# EAGLE library part SIM5320E (library SIM5320E)
create by mikroavr.co sim5320, 2G/3G modul
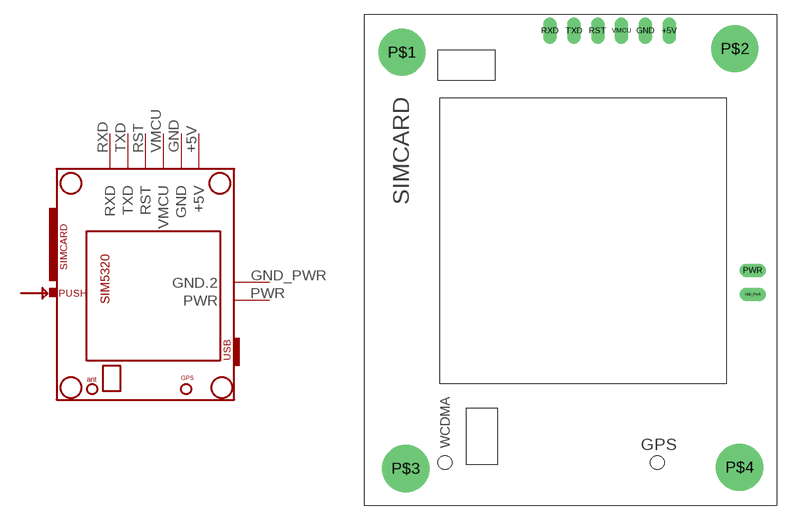
[diagram p0: symbol with the pads of SIM5320E; footprint SIM5320E]

Designator prefix -

## SIM5320E (AVAILABILITY: Unavailable; DESCRIPTION: - Cellular Development Platform For Use With SIM5320E; MF: Adafruit Industries; MP: SIM5320E; PACKAGE: None; PRICE: None)  [SIM5320E]
+5V  +5V
GND  GND
GND_PWR  GND.2
PWR  PWR
RST  RST
RXD  RXD
TXD  TXD
VMCU  VMCU

## Footprint SIM5320E (pad centres in mm)
SIM800 v2 MODUL crete by mikroavr.com
drill 0.914 long: +5V 30.734,-1.778; GND 28.194,-1.778; GND_PWR 39.624,-29.845; PWR 39.624,-27.305; RST 23.114,-1.778; RXD 18.034,-1.778; TXD 20.574,-1.778; VMCU 25.654,-1.778
drill 4.013: P$1 2.286,-4.064; P$2 37.719,-3.683; P$3 2.667,-48.387; P$4 38.227,-48.26